# EAGLE library part MCU_LPC11U35 (library akita)
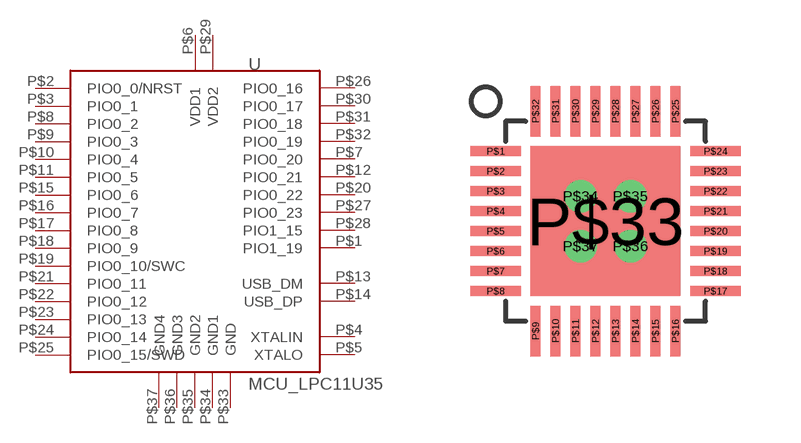
[diagram p82: symbol with the pads of QFN32E; footprint QFN32E]

Designator prefix -

## MCU_LPC11U35  [QFN32E]
P$1  PIO1_19
P$2  PIO0_0/NRST
P$3  PIO0_1
P$4  XTALIN
P$5  XTALO
P$6  VDD1
P$7  PIO0_20
P$8  PIO0_2
P$9  PIO0_3
P$10  PIO0_4
P$11  PIO0_5
P$12  PIO0_21
P$13  USB_DM
P$14  USB_DP
P$15  PIO0_6
P$16  PIO0_7
P$17  PIO0_8
P$18  PIO0_9
P$19  PIO0_10/SWC
P$20  PIO0_22
P$21  PIO0_11
P$22  PIO0_12
P$23  PIO0_13
P$24  PIO0_14
P$25  PIO0_15/SWD
P$26  PIO0_16
P$27  PIO0_23
P$28  PIO1_15
P$29  VDD2
P$30  PIO0_17
P$31  PIO0_18
P$32  PIO0_19
P$33  GND
P$34  GND1
P$35  GND2
P$36  GND3
P$37  GND4

## Footprint QFN32E (pad centres in mm)
QFN32 w/ Exposed Pad
smd 1.27 x 0.25: P$1 -2.75,1.75; P$2 -2.75,1.25; P$3 -2.75,0.75; P$4 -2.75,0.25; P$5 -2.75,-0.25; P$6 -2.75,-0.75; P$7 -2.75,-1.25; P$8 -2.75,-1.75; P$17 2.75,-1.75; P$18 2.75,-1.25; P$19 2.75,-0.75; P$20 2.75,-0.25; P$21 2.75,0.25; P$22 2.75,0.75; P$23 2.75,1.25; P$24 2.75,1.75
smd 0.25 x 1.27: P$9 -1.75,-2.75; P$10 -1.25,-2.75; P$11 -0.75,-2.75; P$12 -0.25,-2.75; P$13 0.25,-2.75; P$14 0.75,-2.75; P$15 1.25,-2.75; P$16 1.75,-2.75; P$25 1.75,2.75; P$26 1.25,2.75; P$27 0.75,2.75; P$28 0.25,2.75; P$29 -0.25,2.75; P$30 -0.75,2.75; P$31 -1.25,2.75; P$32 -1.75,2.75
smd 3.75 x 3.75: P$33 0,0
drill 0.3 pad 0.6: P$34 -0.625,0.625; P$35 0.625,0.625; P$36 0.625,-0.625; P$37 -0.625,-0.625